# EAGLE library part CON-HARTING_CON20L (library connect24x16)
CONNECTOR
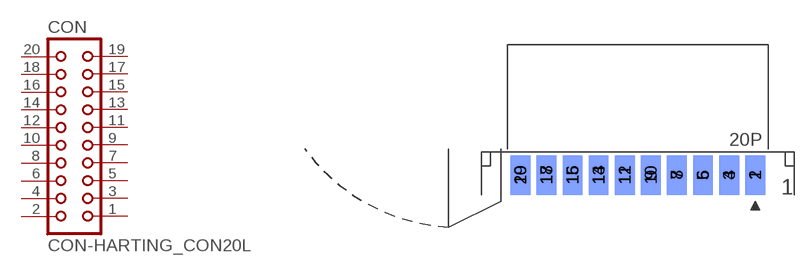
[diagram p0: symbol with the pads of CON-HARTING_CON20L; footprint CON-HARTING_CON20L]

Designator prefix CON

## CON-HARTING_CON20L  [CON-HARTING_CON20L]
1  1  pas
2  2  pas
3  3  pas
4  4  pas
5  5  pas
6  6  pas
7  7  pas
8  8  pas
9  9  pas
10  10  pas
11  11  pas
12  12  pas
13  13  pas
14  14  pas
15  15  pas
16  16  pas
17  17  pas
18  18  pas
19  19  pas
20  20  pas

## Footprint CON-HARTING_CON20L (pad centres in mm)
CONNECTOR
smd 1.93 x 3.81: 1 11.43,-2.54; 3 8.89,-2.54; 5 6.35,-2.54; 7 3.81,-2.54; 9 1.27,-2.54; 11 -1.27,-2.54; 13 -3.81,-2.54; 15 -6.35,-2.54; 17 -8.89,-2.54; 19 -11.43,-2.54
smd 1.93 x 3.81 bottom: 2 11.43,-2.54; 4 8.89,-2.54; 6 6.35,-2.54; 8 3.81,-2.54; 10 1.27,-2.54; 12 -1.27,-2.54; 14 -3.81,-2.54; 16 -6.35,-2.54; 18 -8.89,-2.54; 20 -11.43,-2.54